# Altium schematic symbol library LED_SMD.SchLib: 19 symbols
Pins are listed as number, name and electrical type; pins without a type are passive.

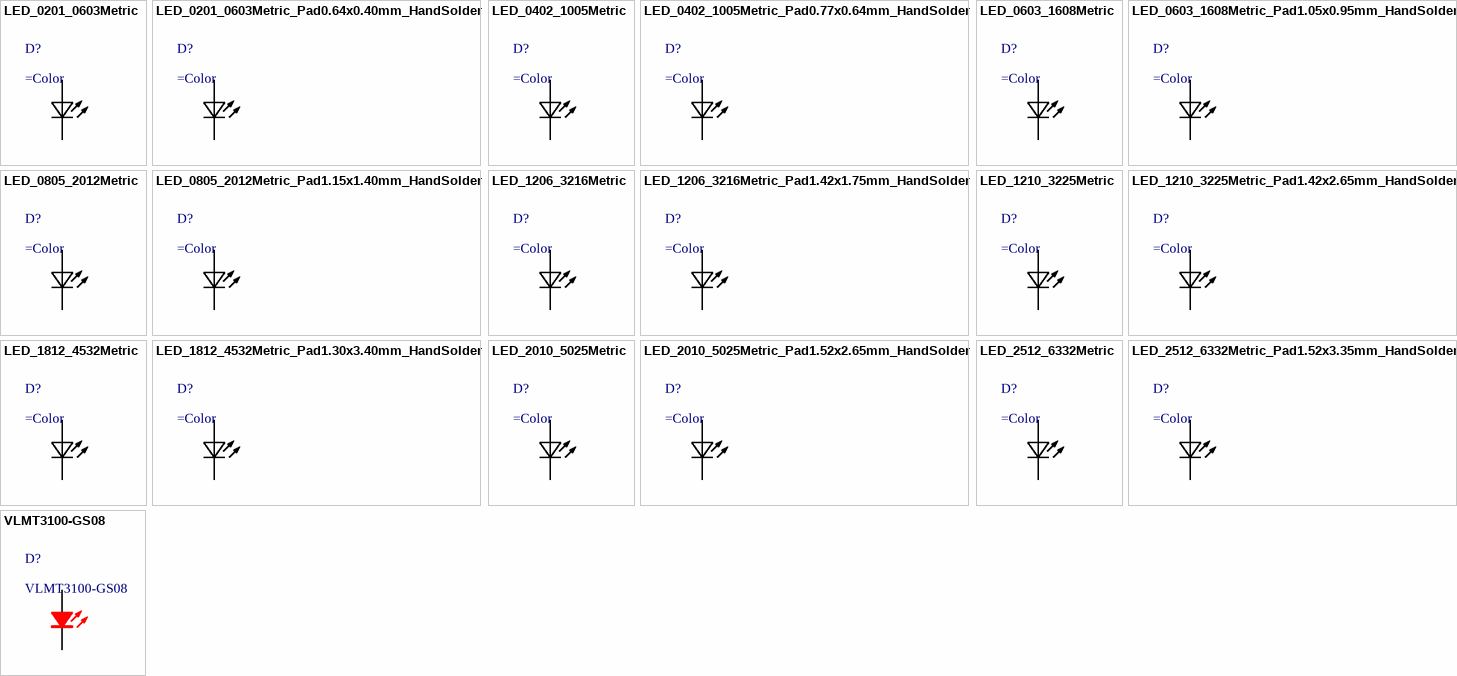
[diagram p0: symbols LED_0201_0603Metric to VLMT3100-GS08]

## LED_0201_0603Metric
designator D?
LED SMD 0201 (0603 Metric)
footprint LED_0201_0603Metric (LED SMD 0201 (0603 Metric))
pins: A Anode, K Cathode

## LED_0201_0603Metric_Pad0.64x0.40mm_HandSolder
designator D?
LED SMD 0201 (0603 Metric) Hand Solder
footprint LED_0201_0603Metric_Pad0.64x0.40mm_HandSolder (LED 0201 (0603 Metric) width Pad 0.64x0.40mm for Hand Solder)
pins: A Anode, K Cathode

## LED_0402_1005Metric
designator D?
LED SMD 0402 (1005 Metric)
footprint LED_0402_1005Metric (LED SMD 0402 (1005 Metric))
footprint LED_0402_1005Metric (LED SMD 0402 (1005 Metric))
pins: A Anode, K Cathode

## LED_0402_1005Metric_Pad0.77x0.64mm_HandSolder
designator D?
LED SMD 0402 (1005 Metric) Hand Solder
footprint LED_0402_1005Metric_Pad0.77x0.64mm_HandSolder (LED 0402 (1005 Metric) with Pad 0.77x0.64mm for Hand Solder)
pins: A Anode, K Cathode

## LED_0603_1608Metric
designator D?
LED SMD 0603 (1608 Metric)
footprint LED_0603_1608Metric (LED 0603 (1608 Metric))
pins: A Anode, K Cathode

## LED_0603_1608Metric_Pad1.05x0.95mm_HandSolder
designator D?
LED SMD 0603 (1608 Metric) Hnad Solder
footprint LED_0603_1608Metric_Pad1.05x0.95mm_HandSolder (LED 0603 (1608 Metric) with Pad 1.05x0.95mm for Hand Solder)
pins: A Anode, K Cathode

## LED_0805_2012Metric
designator D?
LED SMD 0805 (2012 Metric)
footprint LED_0805_2012Metric (LED 0805 (2012 Metric))
pins: A Anode, K Cathode

## LED_0805_2012Metric_Pad1.15x1.40mm_HandSolder
designator D?
LED SMD 0805 (2012 Metric) Hand Solder
footprint LED_0805_2012Metric_Pad1.15x1.40mm_HandSolder (LED 0805 (2012 Metric) with Pad 1.15x1.40mm for Hand Solder)
pins: A Anode, K Cathode

## LED_1206_3216Metric
designator D?
LED SMD 1206 (3216 Metric)
footprint LED_1206_3216Metric (LED 1206 (3216 Metric))
pins: A Anode, K Cathode

## LED_1206_3216Metric_Pad1.42x1.75mm_HandSolder
designator D?
LED SMD 1206 (3216 Metric) Hand Solder
footprint LED_1206_3216Metric_Pad1.42x1.75mm_HandSolder (LED 1206 (3216 Metric) with Pad 1.42x1.75mm for Hand Solder)
pins: A Anode, K Cathode

## LED_1210_3225Metric
designator D?
LED SMD 1210 (3225 Metric)
footprint LED_1210_3225Metric (LED 1210 (3225 Metric))
pins: A Anode, K Cathode

## LED_1210_3225Metric_Pad1.42x2.65mm_HandSolder
designator D?
LED SMD 1210 (3225 Metric) Hand Solder
footprint LED_1210_3225Metric_Pad1.42x2.65mm_HandSolder (LED 1210 (3225 Metric) with Pad 1.42x2.65mm for Hand Solder)
pins: A Anode, K Cathode

## LED_1812_4532Metric
designator D?
LED SMD 1812 (4532 Metric)
footprint LED_1812_4532Metric (LED 1812 (4532 Metric))
pins: A Anode, K Cathode

## LED_1812_4532Metric_Pad1.30x3.40mm_HandSolder
designator D?
LED SMD 1812 (4532 Metric) Hand Solder
footprint LED_1812_4532Metric_Pad1.30x3.40mm_HandSolder (LED 1812 (4532 Metric) for Pad 1.30x3.40mm for Hand Solder)
pins: A Anode, K Cathode

## LED_2010_5025Metric
designator D?
LED SMD 2110 (5025 Metric)
footprint LED_2010_5025Metric (LED 2010 (5025 Metric))
pins: A Anode, K Cathode

## LED_2010_5025Metric_Pad1.52x2.65mm_HandSolder
designator D?
LED SMD 2010 (5025 Metric) Hand Solder
footprint LED_2010_5025Metric_Pad1.52x2.65mm_HandSolder (LED 2010 (5025 Metric) with Pad1.52x2.65mm for Hand Solder)
pins: A Anode, K Cathode

## LED_2512_6332Metric
designator D?
LED SMD 2512 (6332 Metric)
footprint LED_2512_6332Metric (LED 2512 (6332 Metric))
pins: A Anode, K Cathode

## LED_2512_6332Metric_Pad1.52x3.35mm_HandSolder
designator D?
LED SMD 2512 (6332 Metric) Hand Solder
footprint LED_2512_6332Metric_Pad1.52x3.35mm_HandSolder (LED 2512 (6332 Metric)  Pad1.52x3.35mm Hand Solder)
pins: A Anode, K Cathode

## VLMT3100-GS08
designator D?
LED Uni-Color Red 618nm Automotive 2-Pin PLCC T/R; Manufacturer 1: Vishay Semiconductors; Category 1: LEDs; Lens Style: Clear,Round,Flat,Circular,Diffused; Viewing Angle: 120°; Luminous Intensity: 1.1mcd; Forward Current: 2mA; Forward Voltage: 2.2V; Wavelength: 625nm; Power Rating: 20mW; Lens Transparency: Clear; Polarity: Unidirectional; Reverse Standoff Voltage: 33V; Clamping Voltage: 53.3V; Min Breakdown Voltage: 36.7V; Max Breakdown Voltage: 40.6V; Peak Pulse Power: 5kW; Number of Elements: 1; Max Power Dissipation: 8W; Peak Pulse Current: 30.9A; Reverse Voltage: 15V; Supplier 1: Digi-Key; Supplier Part Number 1: VLMT3100-GS08CT-ND; Manufacturer Part Number 1: VLMT3100-GS08; RoHS 1: Yes; Description 1: LED Uni-Color Red 618nm Automotive 2-Pin PLCC T/R; Stock 1: 12773; Pricing 1: 1=0.45000, 10=0.29500, 100=0.19660, 500=0.13596 (USD); Mount: Surface Mount,PCB; Case/Package: SMD/SMT; Number of Pins: 2; Color: Red; Contact Plating: Tin,Matte; Min Operating Temperature: -40°C; Max Operating Temperature: 100°C; Packaging: Tape and Reel; Package Quantity: 1500; Illumination Color: Red; Test Current: 2mA; Dominant Wavelength: 625nm; Power Dissipation: 20mW; Number of LEDs: 1; Series: VLM.3; Length: 3mm; Width: 2.8mm; Height: 1.85mm; Depth: 2.8mm; Radiation Hardening: No; Lead Free: Lead Free; RoHS Compliant: Yes; ComponentLink1URL: https://datasheet.ciiva.com/4688/vlmt3100-79522-4688666.pdf?src-supplier=Mouser; ComponentLink1Description: https://datasheet.ciiva.com/4688/vlmt3100-79522-4688666.pdf?src-supplier=Mouser; ComponentLink2URL: https://datasheet.ciiva.com/4266/vlmt3100-4266526.pdf?src-supplier=Arrow+Electronics; ComponentLink2Description: https://datasheet.ciiva.com/4266/vlmt3100-4266526.pdf?src-supplier=Arrow+Electronics; ComponentLink3URL: https://datasheet.ciiva.com/23621/vlmt3100-23621200.pdf?src-supplier=Newark; ComponentLink3Description: https://datasheet.ciiva.com/23621/vlmt3100-23621200.pdf?src-supplier=Newark; ComponentLink4URL: https://datasheet.ciiva.com/11774/0900766b80ed1fcc-11774380.pdf?src-supplier=RSComponents; ComponentLink4Description: https://datasheet.ciiva.com/11774/0900766b80ed1fcc-11774380.pdf?src-supplier=RSComponents; ComponentLink5URL: https://datasheet.ciiva.com/15117/getdatasheetpartid-110499-15117487.pdf?src-supplier=Verical; ComponentLink5Description: https://datasheet.ciiva.com/15117/getdatasheetpartid-110499-15117487.pdf?src-supplier=Verical; ComponentLink6URL: https://datasheet.ciiva.com/1280/88308-1280611.pdf?src-supplier=Farnell; ComponentLink6Description: https://datasheet.ciiva.com/1280/88308-1280611.pdf?src-supplier=Farnell; ComponentLink7URL: https://datasheet.ciiva.com/8028/vlmt3100-8028076.pdf?src-supplier=Element14; ComponentLink7Description: https://datasheet.ciiva.com/8028/vlmt3100-8028076.pdf?src-supplier=Element14; ComponentLink8URL: https://datasheet.ciiva.com/1280/88308-1280606.pdf?src-supplier=Farnell; ComponentLink8Description: https://datasheet.ciiva.com/1280/88308-1280606.pdf?src-supplier=Farnell; ComponentLink9URL: https://datasheet.ciiva.com/16510/vlmt3100-16510988.pdf?src-supplier=Future+Electronics; ComponentLink9Description: https://datasheet.ciiva.com/16510/vlmt3100-16510988.pdf?src-supplier=Future+Electronics
footprint VLMT3100 (Standard SMD LED PLCC-2)
pins: A Anode, K Cathode